# Altium schematic symbol library Conn,PWR,Barrel Jack,2.1mm.Schlib: 1 symbol
Pins are listed as number, name and electrical type; pins without a type are passive.

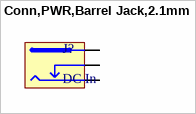
[diagram p0: symbol Conn,PWR,Barrel Jack,2.1mm]

## Conn,PWR,Barrel Jack,2.1mm
designator J?, comment DC In
Power Barrel Connector Jack 2.10mm ID (0.083"), 5.50mm OD (0.217") Through Hole, Right Angle
pins: 1, 2, 3